# Altium integrated library 8-1437565-1.IntLib: 1 symbol
Pins are listed as number, name and electrical type; pins without a type are passive.

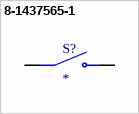
[diagram p0: symbol 8-1437565-1]

## 8-1437565-1
designator S?
MP: 8-1437565-1; Package: None; Price: None; Availability: Unavailable; Value: *
footprint SW_8-1437565-1
pins: 1 COM, 2 COM, 3 NO, 4 NO